# Altium integrated library ESP-07.IntLib: 1 symbol
Pins are listed as number, name and electrical type; pins without a type are passive.

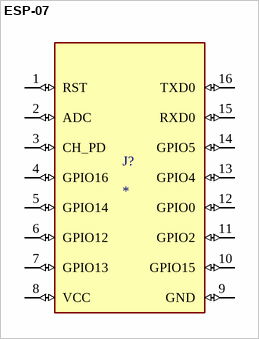
[diagram p0: symbol ESP-07]

## ESP-07
designator J?
WiFi 802.11b/g/n Transceiver Module 2.4GHz ~ 2.5GHz PCB Trace Surface Mount; MP: ESP-07; MF: RF Solutions Ltd; Price: None; Package: NON-STANDARD-16 RF SOLUTIONS; Check_prices: https://www.snapeda.com/parts/ESP-07/RF+Solutions/view-part/?ref=eda; Value: *; Availability: Not in stock; SnapEDA_Link: https://www.snapeda.com/parts/ESP-07/RF+Solutions/view-part/?ref=snap
footprint ESP-07
pins: 1 RST (io), 2 ADC (io), 3 CH_PD (io), 4 GPIO16 (io), 5 GPIO14 (io), 6 GPIO12 (io), 7 GPIO13 (io), 8 VCC (io), 9 GND (io), 10 GPIO15 (io), 11 GPIO2 (io), 12 GPIO0 (io), 13 GPIO4 (io), 14 GPIO5 (io), 15 RXD0 (io), 16 TXD0 (io)